# Altium integrated library FA18X7R1E105KRU06.IntLib: 1 symbol
Pins are listed as number, name and electrical type; pins without a type are passive.

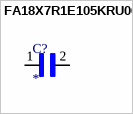
[diagram p0: symbol FA18X7R1E105KRU06]

## FA18X7R1E105KRU06
designator C?
1 ÂµF Â±10% 25V Ceramic Capacitor X7R Radial; MF: TDK; MP: FA18X7R1E105KRU06; Value: *; Check_prices: https://www.snapeda.com/parts/FA18X7R1E105KRU06/TDK/view-part/?ref=eda; Package: Radial TDK Corporation; Purchase-URL: https://pricing.snapeda.com/search/part/FA18X7R1E105KRU06/?ref=eda; SnapEDA_Link: https://www.snapeda.com/parts/FA18X7R1E105KRU06/TDK/view-part/?ref=snap
footprint CAPRB250W50L400T250H550
pins: 1, 2